# EAGLE library part POWER-LTC3566 (library mrone)
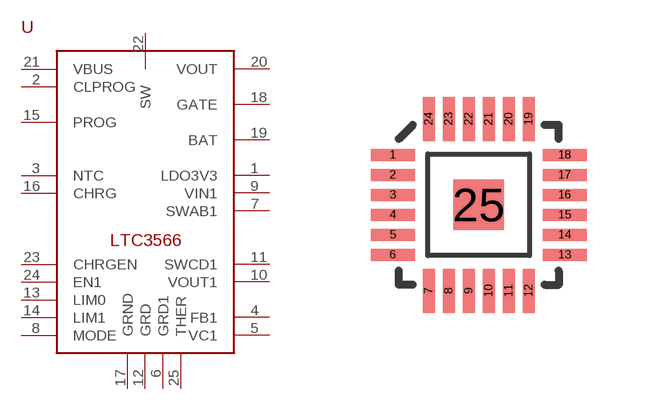
[diagram p8: symbol with the pads of QFN-24; footprint QFN-24]

Designator prefix -

## POWER-LTC3566  [QFN-24]
1  LDO3V3
2  CLPROG
3  NTC
4  FB1
5  VC1
6  GRD1
7  SWAB1
8  MODE
9  VIN1
10  VOUT1
11  SWCD1
12  GRD
13  LIM0
14  LIM1
15  PROG
16  CHRG
17  GRND
18  GATE
19  BAT
20  VOUT
21  VBUS
22  SW
23  CHRGEN
24  EN1
25  THER

## Footprint QFN-24 (pad centres in mm)
smd 1.1 x 0.3: 1 -2.15,1.25; 2 -2.15,0.75; 3 -2.15,0.25; 4 -2.15,-0.25; 5 -2.15,-0.75; 6 -2.15,-1.25; 13 2.15,-1.25; 14 2.15,-0.75; 15 2.15,-0.25; 16 2.15,0.25; 17 2.15,0.75; 18 2.15,1.25
smd 0.3 x 1.1: 7 -1.25,-2.15; 8 -0.75,-2.15; 9 -0.25,-2.15; 10 0.25,-2.15; 11 0.75,-2.15; 12 1.25,-2.15; 19 1.25,2.15; 20 0.75,2.15; 21 0.25,2.15; 22 -0.25,2.15; 23 -0.75,2.15; 24 -1.25,2.15
smd 1.27 x 1.27: 25 0,0